# EAGLE library part HEADER-2X3 (library 4ms-main-parts)
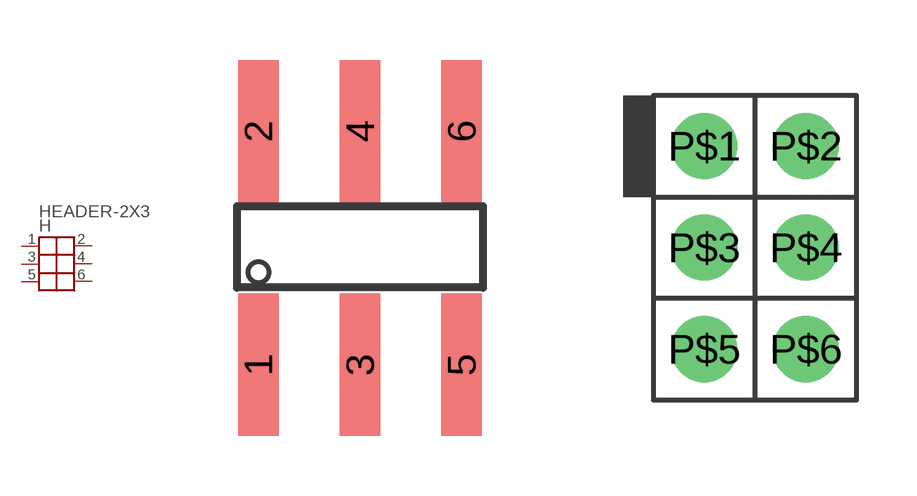
[diagram p4: symbol with the pads of HEADER-2X3-SMT; footprints HEADER-2X3-SMT, HEADER-2X3-TH]

Designator prefix H

## HEADER-2X3SMT  [HEADER-2X3-SMT]
1  P$1
2  P$2
3  P$3
4  P$4
5  P$5
6  P$6

## HEADER-2X3TH  [HEADER-2X3-TH]
P$1  P$1
P$2  P$2
P$3  P$3
P$4  P$4
P$5  P$5
P$6  P$6

## Footprint HEADER-2X3-SMT (pad centres in mm)
smd 1.016 x 3.556: 1 -2.54,-2.95; 2 -2.54,2.899; 3 0,-2.95; 4 0,2.899; 5 2.54,-2.95; 6 2.54,2.899

## Footprint HEADER-2X3-TH (pad centres in mm)
drill 0.9 pad 1.651: P$1 -1.27,2.54; P$2 1.27,2.54; P$3 -1.27,0; P$4 1.27,0; P$5 -1.27,-2.54; P$6 1.27,-2.54